# EAGLE library part ISD151XX (library isd)
VOICE RECORD/PLAYBACK IC 3V, I2S and SPI Interface, 2-3 minutes 8kHz/4bit ADPCM
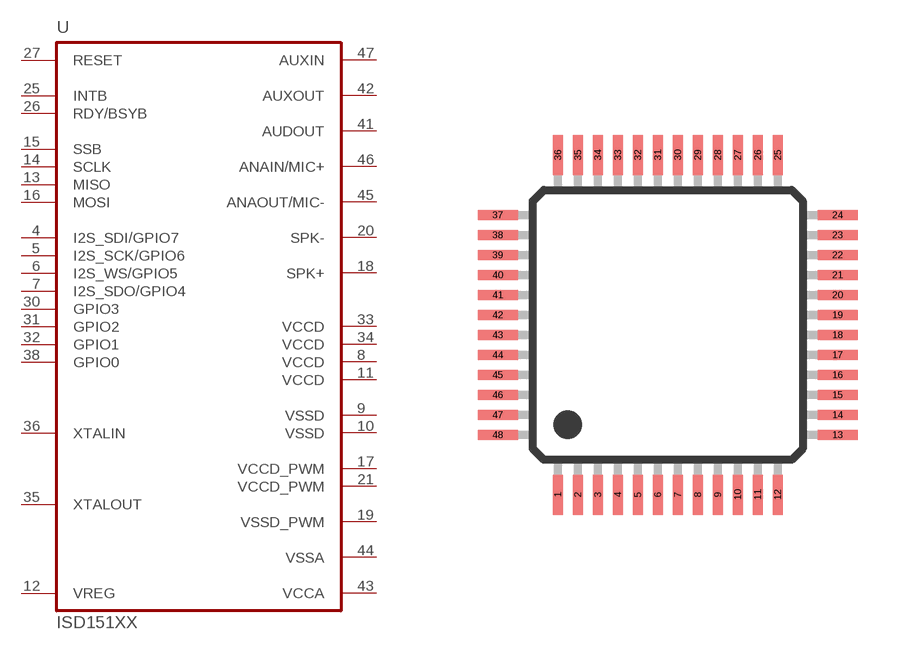
[diagram p4: symbol with the pads of LQFP48; footprint LQFP48]

Designator prefix U

## ISD151XX  [LQFP48]
4  I2S_SDI/GPIO7
5  I2S_SCK/GPIO6
6  I2S_WS/GPIO5
7  I2S_SDO/GPIO4
8  VCCD  pwr
9  VSSD  pwr
10  VSSD  pwr
11  VCCD  pwr
12  VREG  pas
13  MISO  oc
14  SCLK  in
15  SSB  in
16  MOSI  in
17  VCCD_PWM  pwr
18  SPK+  out
19  VSSD_PWM  pwr
20  SPK-  out
21  VCCD_PWM  pwr
25  INTB
26  RDY/BSYB
27  RESET  in
30  GPIO3
31  GPIO2
32  GPIO1
33  VCCD  pwr
34  VCCD  pwr
35  XTALOUT  out
36  XTALIN  in
38  GPIO0
41  AUDOUT  out
42  AUXOUT  out
43  VCCA  pwr
44  VSSA  pwr
45  ANAOUT/MIC-  in
46  ANAIN/MIC+  in
47  AUXIN  in

## Footprint LQFP48 (pad centres in mm)
LQFP48
smd 0.25 x 1: 1 -2.75,-4.25; 2 -2.25,-4.25; 3 -1.75,-4.25; 4 -1.25,-4.25; 5 -0.75,-4.25; 6 -0.25,-4.25; 7 0.25,-4.25; 8 0.75,-4.25; 9 1.25,-4.25; 10 1.75,-4.25; 11 2.25,-4.25; 12 2.75,-4.25; 25 2.75,4.25; 26 2.25,4.25; 27 1.75,4.25; 28 1.25,4.25; 29 0.75,4.25; 30 0.25,4.25; 31 -0.25,4.25; 32 -0.75,4.25; 33 -1.25,4.25; 34 -1.75,4.25; 35 -2.25,4.25; 36 -2.75,4.25
smd 1 x 0.25: 13 4.25,-2.75; 14 4.25,-2.25; 15 4.25,-1.75; 16 4.25,-1.25; 17 4.25,-0.75; 18 4.25,-0.25; 19 4.25,0.25; 20 4.25,0.75; 21 4.25,1.25; 22 4.25,1.75; 23 4.25,2.25; 24 4.25,2.75; 37 -4.25,2.75; 38 -4.25,2.25; 39 -4.25,1.75; 40 -4.25,1.25; 41 -4.25,0.75; 42 -4.25,0.25; 43 -4.25,-0.25; 44 -4.25,-0.75; 45 -4.25,-1.25; 46 -4.25,-1.75; 47 -4.25,-2.25; 48 -4.25,-2.75